# EAGLE library part FCC_20V_VERT_1MM (library MarcEagleParts)
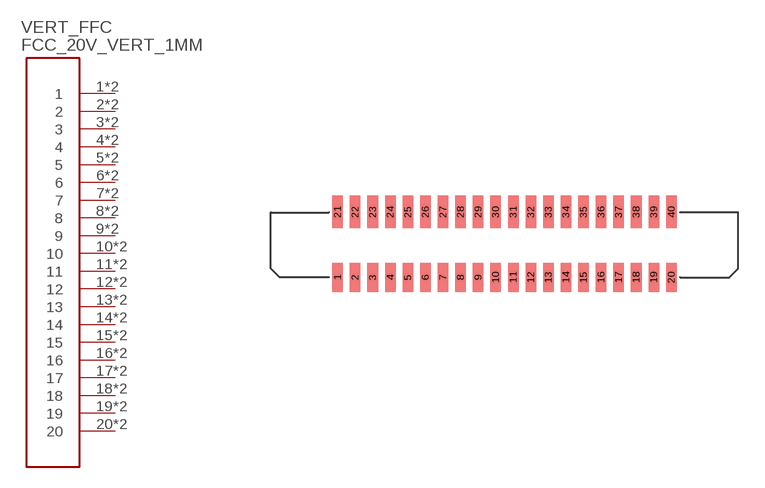
[diagram p5: symbol with the pads of MOLEX_VERT_1MM_SMD; footprint MOLEX_VERT_1MM_SMD]

Designator prefix VERT_FFC

## FCC_20V_VERT_1MM  [MOLEX_VERT_1MM_SMD]
1  1
2  2
3  3
4  4
5  5
6  6
7  7
8  8
9  9
10  10
11  11
12  12
13  13
14  14
15  15
16  16
17  17
18  18
19  19
20  20
21  1
22  2
23  3
24  4
25  5
26  6
27  7
28  8
29  9
30  10
31  11
32  12
33  13
34  14
35  15
36  16
37  17
38  18
39  19
40  20

## Footprint MOLEX_VERT_1MM_SMD (pad centres in mm)
Molex FFC connector Vertical Position SMD 1mm Pitch Part no: 0526102033
smd 0.6 x 1.65: 1 0,0; 2 1,0; 3 2,0; 4 3,0; 5 4,0; 6 5,0; 7 6,0; 8 7,0; 9 8,0; 10 9,0; 11 10,0; 12 11,0; 13 12,0; 14 13,0; 15 14,0; 16 15,0; 17 16,0; 18 17,0; 19 18,0; 20 19,0
smd 0.6 x 1.85: 21 0,3.725; 22 1,3.725; 23 2,3.725; 24 3,3.725; 25 4,3.725; 26 5,3.725; 27 6,3.725; 28 7,3.725; 29 8,3.725; 30 9,3.725; 31 10,3.725; 32 11,3.725; 33 12,3.725; 34 13,3.725; 35 14,3.725; 36 15,3.725; 37 16,3.725; 38 17,3.725; 39 18,3.725; 40 19,3.725